# Altium footprint library 0805net_tie.PcbLib: 1 footprints
Each footprint in its own frame and in the unit in brackets; x right, y up, seen from the top. Pads: shape width x height; smd on the part's side, far side on the other; paste and mask are expansions set on the pad; w line width, h text height; cw(c..) or ccw(c..) is an arc to the next point about the centre after c.
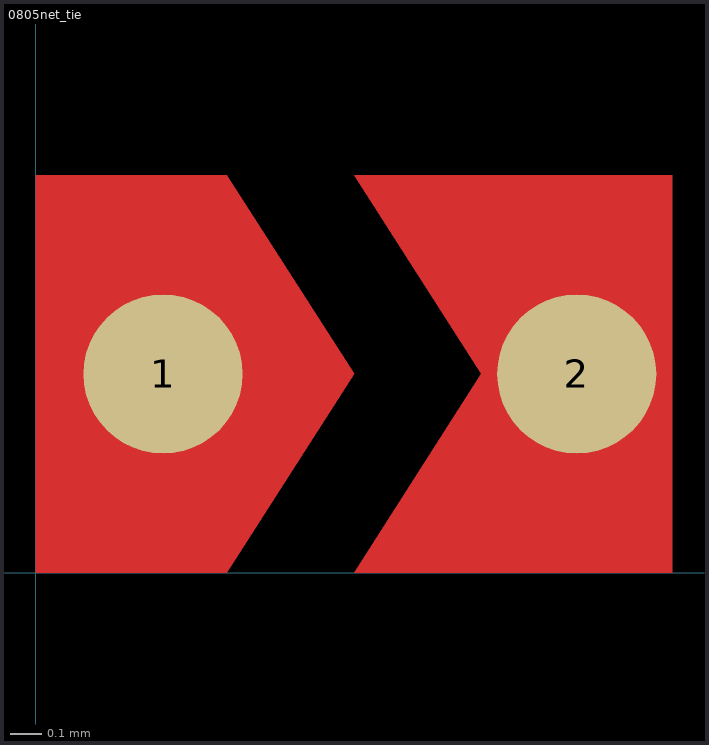
[diagram p0: the footprint, top view; thin cyan lines are the x and y axes]

## 0805net_tie [mm]
pads (2):
  round 0.5 smd: 1(0.4,0.625) 2(1.7,0.625)
Top Layer:
  region: 1,1.25 1.4,0.625 1,0 2,0 2,1.25
  region: 0,1
  region: 0,1.25
  region: 0,1.25 0,0 0.6,0 1,0.625 0.6,1.25